# Altium footprint library Button Switch.PcbLib: 1 footprints
Each footprint in its own frame and in the unit in brackets; x right, y up, seen from the top. Pads: shape width x height; smd on the part's side, far side on the other; paste and mask are expansions set on the pad; w line width, h text height; cw(c..) or ccw(c..) is an arc to the next point about the centre after c.
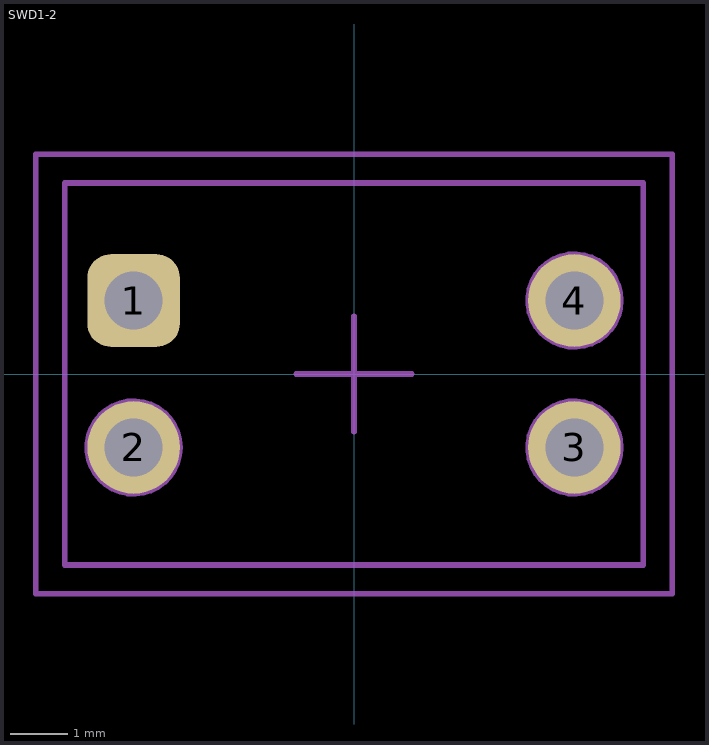
[diagram p0: the footprint, top view; thin cyan lines are the x and y axes]

## SWD1-2 [mm] "DIP Switch SPST x2"
height 6.3
pads (4):
  rrect50% 1.6x1.6 hole 1: 1(-3.81,1.27)
  round 1.6 hole 1: 2(-3.81,-1.27) 3(3.81,-1.27) 4(3.81,1.27)
Mechanical 13:
  lines w0.1: -5,-3.3 -5,3.3 5,3.3 5,-3.3 -5,-3.3
  text "2" at -3.81,-0.635 h3
  text "1" at -3.81,1.905 h3
  text "ON" at 2.54,1.905 h3
Mechanical 14:
  circle w0.1: c-3.81,-1.27 r0.8
  circle w0.1: c3.81,1.27 r0.8
  circle w0.1: c3.81,-1.27 r0.8
  lines w0.1: -4.445,0.635 -4.445,1.905 -3.175,1.905 -3.175,0.635 -4.445,0.635
Mechanical 15:
  lines w0.1: -1,0 1,0 ; 0,-1 0,1 ; -5.5,-3.8 5.5,-3.8 5.5,3.8 -5.5,3.8 -5.5,-3.8
3D body: height 5.4, standoff 5.3, extent 0,-1.905 2.54,-0.635
3D body: height 5.4, standoff 5.3, extent 0,0.635 2.54,1.905
3D body: height 6.3, standoff 5.3, extent -2.54,-1.905 0,-0.635
3D body: height 6.3, standoff 5.3, extent -2.54,0.635 0,1.905
3D body: height 5.3, standoff 0, extent -5,-3.3 5,3.3
3D body: height 0, standoff -2, extent -3.9,1 -3.7,1.6
3D body: height 0, standoff -2, extent 3.7,0.9 3.9,1.5
3D body: height 0, standoff -2, extent -3.9,-1.6 -3.7,-1
3D body: height 0, standoff -2, extent 3.7,-1.6 3.9,-1